# EAGLE library part 24AA (library 1)
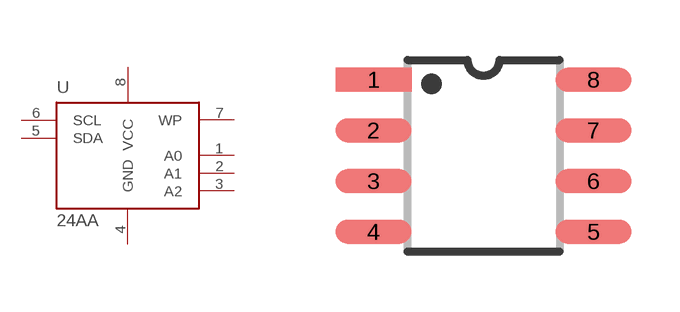
[diagram p26: symbol with the pads of SOIC-8; footprint SOIC-8]

Designator prefix -

## 24AAXXX-I/SN  [SOIC-8]
1  A0  in
2  A1  in
3  A2  in
4  GND  pwr
5  SDA
6  SCL  in
7  WP  in
8  VCC  pwr

## Footprint SOIC-8 (pad centres in mm)
SOIC-8
smd 1.9 x 0.6: 1 -2.75,1.905; 2 -2.75,0.635; 3 -2.75,-0.635; 4 -2.75,-1.905; 5 2.75,-1.905; 6 2.75,-0.635; 7 2.75,0.635; 8 2.75,1.905